# Altium footprint library Tracopower.PcbLib: 11 footprints
Each footprint in its own frame and in the unit in brackets; x right, y up, seen from the top. Pads: shape width x height; smd on the part's side, far side on the other; paste and mask are expansions set on the pad; w line width, h text height; cw(c..) or ccw(c..) is an arc to the next point about the centre after c.
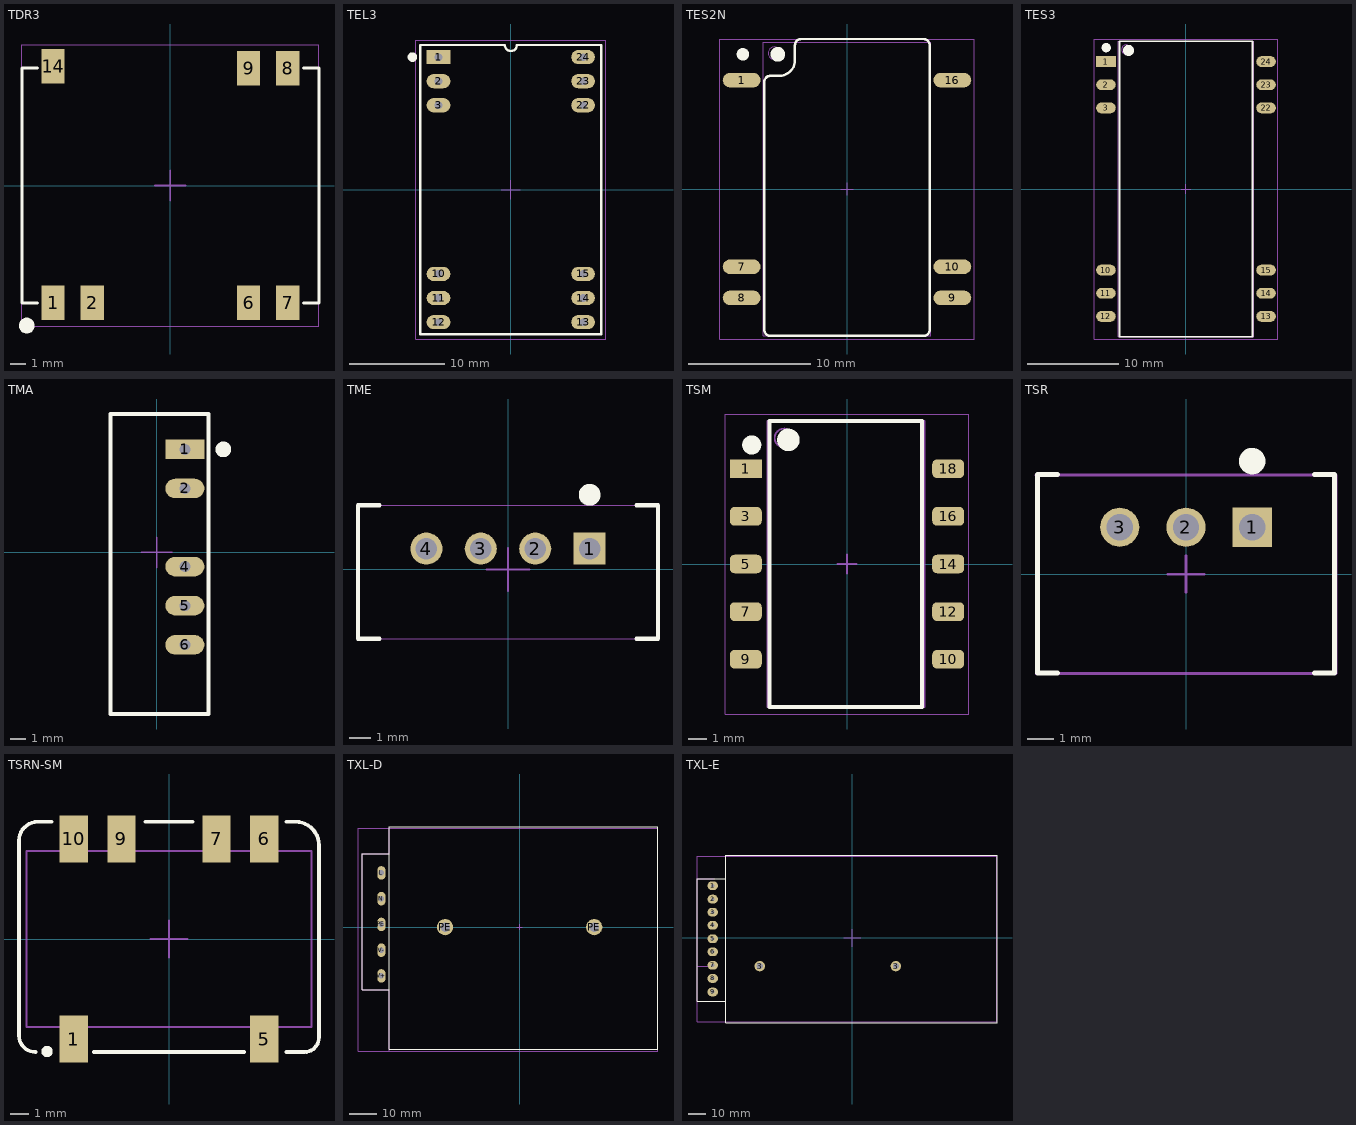
[diagram p0: the footprints below, top view; thin cyan lines are the x and y axes]

## TDR3 [mm] "DC/DC-Converter, Dual Output, SMD"
height 7.3
pads (7):
  rect 1.5x2.25 smd: 1(-7.62,-7.62) 2(-5.08,-7.62) 6(5.08,-7.62) 7(7.62,-7.62) 8(7.62,7.62) 9(5.08,7.62) 14(-7.62,7.74)
Top Overlay:
  region: -9.835,-9.098 -9.835,-9.197 -9.759,-9.381 -9.619,-9.522 -9.435,-9.598 -9.335,-9.598 -9.236,-9.598 -9.052,-9.522 -8.911,-9.381 -8.835,-9.197 -8.835,-9.098 -8.835,-8.999 -8.911,-8.815 -9.052,-8.674 -9.236,-8.598 -9.335,-8.598 -9.435,-8.598 -9.619,-8.674 -9.759,-8.815 -9.835,-8.998
  lines w0.2: -8.636,-7.62 -9.652,-7.62 -9.652,7.62 -8.636,7.62 ; 8.636,-7.62 9.652,-7.62 9.652,7.62 8.636,7.62
Mechanical 15:
  lines w0.05: -9.652,-9.144 9.652,-9.144 9.652,9.144 -9.652,9.144 -9.652,-9.144
  lines w0.1: -1,0 1,0 ; 0,-1 0,1
3D body "tdr3sm.stp": height 8.43, standoff 0.14, extent -9.45,-7.977 9.45,7.976

## TEL3 [mm] "DC/DC-Converter, MultipleOutputs, DIP, 12 of 24 Leads, Body 20x32mm, Pitch 2.54mm"
height 13.716
pads (12):
  rect 2.5x1.5 hole 0.8: 1(-7.62,13.97)
  oval 2.5x1.5 hole 0.8: 2(-7.62,11.43) 3(-7.62,8.89) 10(-7.62,-8.89) 11(-7.62,-11.43) 12(-7.62,-13.97) 13(7.62,-13.97) 14(7.62,-11.43) 15(7.62,-8.89) 22(7.62,8.89) 23(7.62,11.43) 24(7.62,13.97)
Top Overlay:
  circle w0.508: c-10.37,13.97 r0.254
  lines w0.254: -9.525,-15.24 9.525,-15.24 9.525,15.24 0.635,15.24 cw(c0,15.24) -0.635,15.24 -9.525,15.24 -9.525,-15.24
Mechanical 15:
  lines w0.05: -10.033,-15.748 -10.033,15.748 10.033,15.748 10.033,-15.748 -10.033,-15.748
  lines w0.1: -1,0 1,0 ; 0,-1 0,1
3D body: height 10.2, standoff 0.1, extent -10.033,-15.748 10.033,15.748

## TES2N [mm] "DC/DC-Converter, Multiple Outputs, SOP, 16-Leads, Body 24,00x13,70mm, Pitch 2,54mm, IPC Medium Density"
height 8
pads (6):
  oval 3.1x1.2 smd: 1(-8.6,8.89) 7(-8.6,-6.35) 8(-8.6,-8.89) 9(8.6,-8.89) 10(8.6,-6.35) 16(8.6,8.89)
Top Overlay:
  circle w0.6: c-5.65,11 r0.3
  circle w0.508: c-8.5,11 r0.254
  lines w0.2: -6.75,-11.5 ccw(c-6.25,-11.5) -6.25,-12 6.25,-12 ccw(c6.25,-11.5) 6.75,-11.5 6.75,-11.25 6.75,11.75 ccw(c6.25,11.75) 6.25,12.25 0,12.25 -3.75,12.25 ccw(c-3.75,11.75) -4.25,11.75 -4.25,10.52 cw(c-5.52,10.52) -5.52,9.25 -6.25,9.25 ccw(c-6.25,8.75) -6.75,8.75 -6.75,-11.5
Mechanical 13:
  circle w0.1: c-5.95,11.1 r0.5
  lines w0.1: -6.85,-12 -6.85,12 6.85,12 6.85,-12 -6.85,-12
Mechanical 15:
  lines w0.05: -10.375,-12.25 -10.375,12.25 10.375,12.25 10.375,-12.25 -10.375,-12.25
  lines w0.1: -0.5,0 0.5,0 ; 0,-0.5 0,0.5
3D body "704212072.stp": height 8.45, standoff 0, extent -9.05,-12 9.05,12

## TES3 [mm] "DC/DC-Converter, SOP, 12 of 24 Leads, Body 32,3x14,8mm, Pitch 2,54mm"
height 10.2
pads (12):
  rect 2.15x1.2 smd: 1(-8.775,13.97)
  oval 2.15x1.2 smd: 2(-8.775,11.43) 3(-8.775,8.89) 10(-8.775,-8.89) 11(-8.775,-11.43) 12(-8.775,-13.97) 13(8.775,-13.97) 14(8.775,-11.43) 15(8.775,-8.89) 22(8.775,8.89) 23(8.775,11.43) 24(8.775,13.97)
Top Overlay:
  circle w0.508: c-8.75,15.5 r0.254
  circle w0.6: c-6.3,15.2 r0.3
  lines w0.2: -7.3,-16.2 7.3,-16.2 7.3,16.2 -7.3,16.2 -7.3,-16.2
Mechanical 13:
  circle w0.1: c-6.55,15.3 r0.5
  lines w0.1: -7.45,-16.2 7.45,-16.2 7.45,16.2 -7.45,16.2 -7.45,-16.2
Mechanical 15:
  lines w0.05: -10.075,-16.45 10.075,-16.45 10.075,16.45 -10.075,16.45 -10.075,-16.45
  lines w0.1: -0.5,0 0.5,0 ; 0,-0.5 0,0.5
3D body: height 10.2, standoff 0.5, extent -7.45,-16.2 7.45,16.2

## TMA [mm] "DC/DC-Converter, SIP, 5 of 6 Leads, Body 6x19.5mm, Pitch 2.54mm"
height 13.4
pads (5):
  rect 2.54x1.27 hole 0.7: 1(1.825,6.7)
  oval 2.54x1.27 hole 0.7: 2(1.825,4.16) 4(1.825,-0.92) 5(1.825,-3.46) 6(1.825,-6)
Top Overlay:
  circle w0.508: c4.325,6.7 r0.254
  lines w0.254: -3,-10.5 3.349,-10.5 3.349,9 -3,9 -3,-10.5
Mechanical 15:
  lines w0.05: -3,-10.5 3.349,-10.5 3.349,9 -3,9 -3,-10.5
  lines w0.1: -1,0 1,0 ; 0,-1 0,1
3D body: height 10.2, standoff 0.51, extent -3.001,-10.5 3.095,9

## TME [mm]
height 10.2
pads (4):
  rect 1.5x1.5 hole 1: 1(3.81,0.968)
  round 1.5 hole 1: 2(1.27,0.968) 3(-1.27,0.968) 4(-3.81,0.968)
Top Overlay:
  circle w0.508: c3.81,3.483 r0.254
  lines w0.2: -6,-3.232 -7,-3.232 -7,3 -6,3 ; 6,-3.232 7,-3.232 7,3 6,3
Mechanical 15:
  lines w0.05: -7,-3.232 7,-3.232 7,3 -7,3 ; -7,-3.232 -7,-3.232 ; -7,-3.232 -7,3 ; -7,3 -7,3
  lines w0.1: -1,0 1,0 ; 0,-1 0,1
3D body: height 10.2, standoff 0.5, extent -7,-3.232 7,3

## TSM [mil] "DC/DC-Converter, SOIC, 10-Leads, Body 15.24x8.30mm, Pitch 2.54mm"
height 320
pads (10):
  rect 67x39 smd: 1(-212.5,200)
  rrect50% 67x39 smd: 3(-212.5,100) 5(-212.5,0) 7(-212.5,-100) 9(-212.5,-200) 10(212.5,-200) 12(212.5,-100) 14(212.5,0) 16(212.5,100) 18(212.5,200)
Top Overlay:
  circle w20: c-200,250 r10
  circle w23.62: c-123.13,260.63 r11.81
  lines w7.87: -162.5,-300 157.5,-300 157.5,300 -162.5,300 -162.5,-300
Mechanical 13:
  circle w3.94: c-131.99,264.57 r19.68
  lines w3.94: -167.42,-300 162.5,-300 162.5,300 -167.42,300 -167.42,-300
Mechanical 15:
  lines w1.97: -255.91,-314.96 255.91,-314.96 255.91,314.96 -255.91,314.96 -255.91,-314.96
  lines w3.94: -19.69,0 19.68,0 ; 0,-19.68 0,19.68
3D body: height 277.56, standoff 9.84, extent -167.42,-300 167.5,300

## TSR [mm] "DC/DC-Converter, SIP"
height 10.2
pads (3):
  rect 1.5x1.5 hole 1: 1(2.54,1.8)
  round 1.5 hole 1: 2(0,1.8) 3(-2.54,1.8)
Top Overlay:
  circle w0.508: c2.54,4.335 r0.254
  lines w0.2: -4.938,-3.793 -5.7,-3.793 -5.7,3.827 -4.938,3.827 ; 4.938,-3.793 5.7,-3.793 5.7,3.827 4.938,3.827
Mechanical 13:
  lines w0.1: -5.753,3.8 5.753,3.8 5.753,-3.81 -5.75,-3.81 -5.75,3.8
Mechanical 15:
  lines w0.05: -5.753,-3.81 5.753,-3.81 5.7,-3.757 5.7,3.827 -5.7,3.827 -5.753,3.773 -5.753,-3.81
  lines w0.1: -0.7,0 0.7,0 ; 0,-0.7 0,0.7
3D body: height 10.2, standoff 0.5, extent -5.753,-3.81 5.753,3.8

## TSRN-SM [mm] "DC/DC-Converter, adjustable, SMD"
height 7.3
pads (6):
  rect 1.5x2.5 smd: 1(-5.08,-5.334) 5(5.08,-5.334) 6(5.08,5.334) 7(2.54,5.334) 9(-2.54,5.334) 10(-5.08,5.334)
Top Overlay:
  circle w0.3: c-6.5,-6 r0.15
  lines w0.2: -7.121,-6.03 cw(c-7.121,-5.15) -8,-5.15 -8,5.25 cw(c-7,5.25) -7,6.25 -6.25,6.25 ; -4,-6.03 4,-6.03 ; -1.25,6.25 1.25,6.25 ; 6.25,-6.03 7.22,-6.03 ccw(c7.22,-5.25) 8,-5.25 8,5 ccw(c6.75,5) 6.75,6.25 6.25,6.25
Mechanical 13:
  lines w0.1: -7.6,-4.7 7.6,-4.7 7.6,4.7 -7.6,4.7 -7.6,-4.7
Mechanical 15:
  lines w0.1: -1,0 1,0 ; 0,-1 0,1
3D body "tsrn-sm.step": height 7.3, standoff 0, extent -7.6,-6.25 7.6,6.104

## TXL-D [mm] "PSU, TXL Series, Case D"
height 35
pads (7):
  oval 3x5 hole 2: L(-51,20) N(-51,10.5) PE(-51,1) V+(-51,-18) V-(-51,-8.5)
  round 6 hole 3.5: PE(-27.5,0) PE(27.5,0)
Top Overlay:
  lines w0.2: -48,-23 -58,-23 -58,27 -48,27 ; -48,-45 -48,37 51,37 51,-45 -48,-45
Mechanical 13:
  lines w0.1: -59.611,-45.7 -59.611,36.4 51.025,36.4 51.025,-45.7 -59.611,-45.7
Mechanical 15:
  lines w0.05: -58,-23 -48,-23 -48,-45.75 51,-45.75 51,36.5 -48,36.5 -48,27 -58,27 -58,-23
  lines w0.1: -1,0 1,0 ; 0,-1 0,1
3D body "TXL_060-24S.stp": height 35.22, standoff 0.22, extent -59.611,-45.7 51.025,36.4

## TXL-E [mm] "PSU, TXL Series, Case E"
height 35
pads (11):
  oval 6x5 hole 2: 1(-80,29.928) 2(-80,22.25) 3(-80,14.75) 4(-80,7.25) 5(-80,-0.5) 6(-80,-8) 7(-80,-15.75) 8(-80,-23.25) 9(-80,-31)
  round 6 hole 3.5: 3(-53,-16.178) 3(25,-16.178)
Top Overlay:
  lines w0.2: -72.5,-36.178 -89,-36.178 -89,33.822 -72.5,33.822 ; -72.5,-48.5 -72.5,47.25 83,47.25 83,-48.5 -72.5,-48.5
Mechanical 13:
  lines w0.1: -88.778,-48.178 82.778,-48.178 82.778,46.922 -88.778,46.922 -88.778,3.344 -88.778,-30.856 -88.778,-48.178
Mechanical 15:
  lines w0.05: -79,-16.178 -89,-16.178 -89,33.822 -79,33.822
  lines w0.1: -5,0 5,0 ; 0,-5 0,5 ; 24,-16.178 26,-16.178 ; 25,-17.178 25,-15.178
3D body "41600.stp": height 38.97, standoff 0.97, extent -88.778,-48.178 82.778,46.922